# Altium footprint library ChargeControl1.PcbLib: 10 footprints
Each footprint in its own frame and in the unit in brackets; x right, y up, seen from the top. Pads: shape width x height; smd on the part's side, far side on the other; paste and mask are expansions set on the pad; w line width, h text height; cw(c..) or ccw(c..) is an arc to the next point about the centre after c.
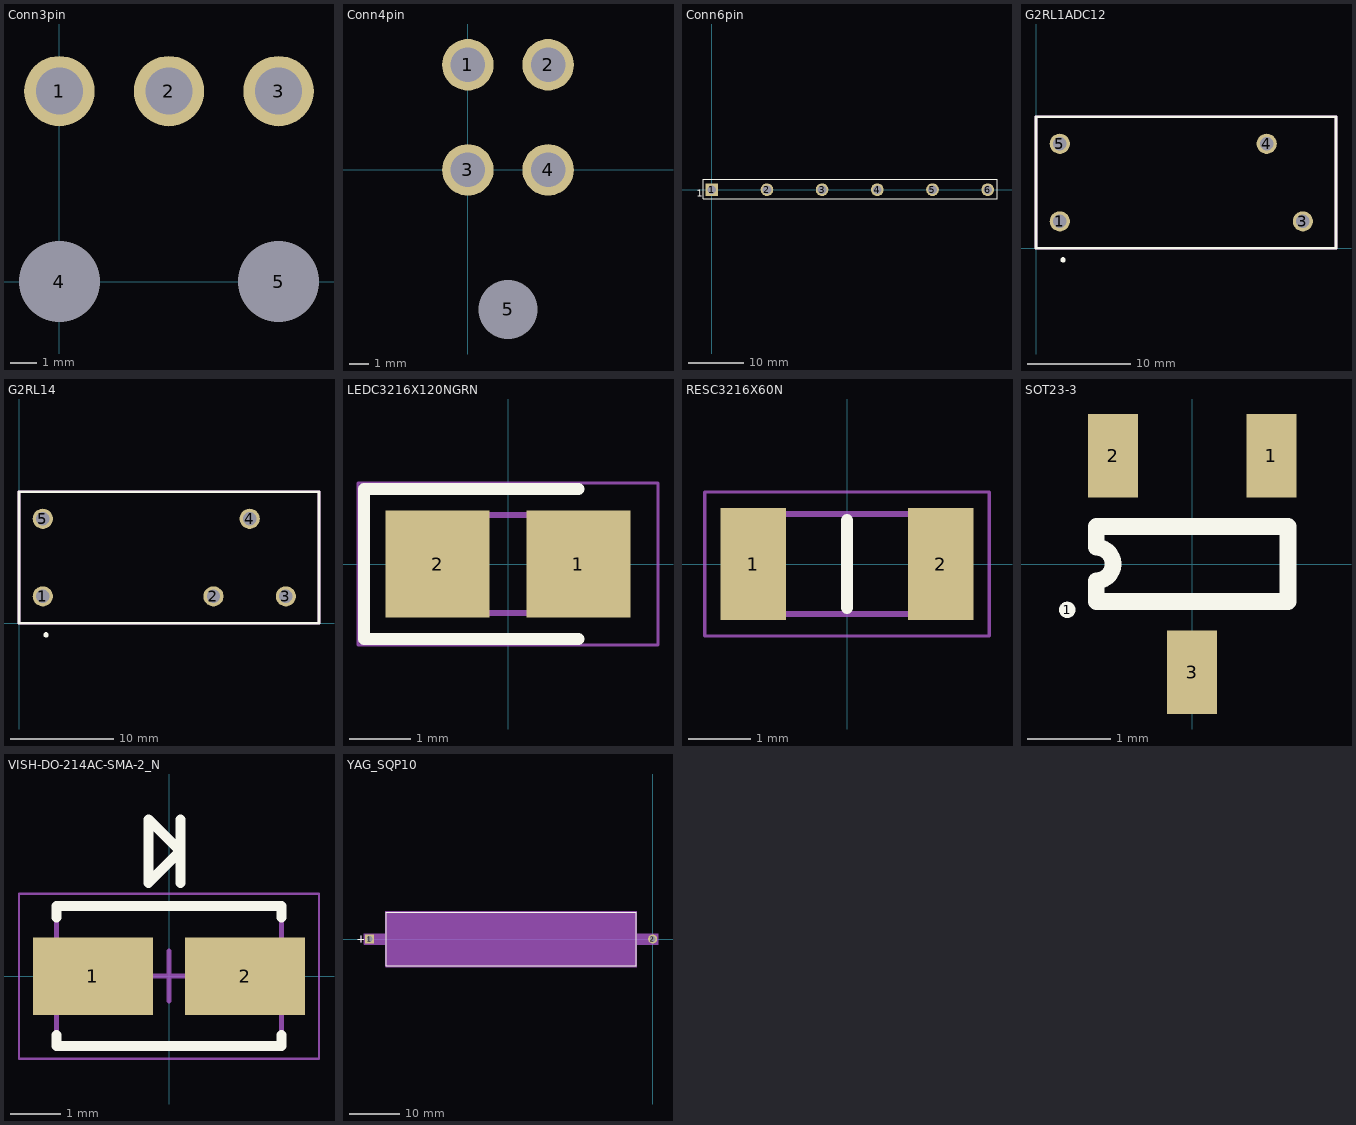
[diagram p0: the footprints below, top view; thin cyan lines are the x and y axes]

## Conn3pin [mm]
pads (5):
  round 2.7 hole 1.8: 1(0,7.3) 2(4.2,7.3) 3(8.4,7.3)
  round 2.3 hole 3.1: 4(0,0) 5(8.4,0)
3D body "039303035.stp": height 6.81, standoff -3.89, extent -2.667,-6.223 11.133,7.827
3D body: height 10.49, standoff -2.79, extent -4.572,5.969 -4.572,5.969

## Conn4pin [mm]
pads (5):
  round 2.7 hole 1.8: 1(0,5.5) 2(4.2,5.5) 3(0,0) 4(4.2,0)
  round 2.3 hole 3.1: 5(2.1,-7.3)
3D body: height 10.49, standoff -2.79, extent -4.572,5.969 -4.572,5.969
3D body "039300040.stp": height 11.01, standoff -3.99, extent -2.641,-13.97 7.359,5.965

## Conn6pin [mm]
pads (6):
  rect 2.3x2.3 hole 1.6: 1(0,0)
  round 2.3 hole 1.6: 2(10,0) 3(20,0) 4(30,0) 5(40,0) 6(50,0)
Top Overlay:
  lines w0.2: -1.524,-1.651 51.689,-1.651 51.689,1.905 -1.524,1.905 -1.524,-1.651
  text "1" at -2.667,-1.27 h1.27

## G2RL1ADC12 [mm]
pads (4):
  round 1.95 hole 1.3: 1(2.3,2.6) 3(25.8,2.6) 4(22.3,10.1) 5(2.3,10.1)
Top Overlay:
  circle w0.254: c2.613,-1.122 r0.125
  lines w0.254: 0,0 0,12.7 29,12.7 29,0 0,0
Mechanical 15:
  lines w0.254: 0,0 29,0 29,12.7 0,12.7 0,0
3D body "G2RL_1A.step": height 15.31, standoff -3.89, extent -0.149,0 28.851,12.7
3D body: height 0.25, standoff 0, extent 10.668,8.509 10.668,8.509
3D body: height 0.25, standoff 0, extent 10.668,8.509 10.668,8.509

## G2RL14 [mm]
pads (5):
  round 1.95 hole 1.3: 1(2.3,2.6) 2(18.8,2.6) 3(25.8,2.6) 4(22.3,10.1) 5(2.3,10.1)
Top Overlay:
  circle w0.254: c2.613,-1.122 r0.125
  lines w0.254: 0,0 0,12.7 29,12.7 29,0 0,0
Mechanical 15:
  lines w0.254: 0,0 29,0 29,12.7 0,12.7 0,0
3D body "G2RL_1.step": height 15.31, standoff -3.89, extent -0.022,0 28.978,12.7

## LEDC3216X120NGRN [mm]
pads (2):
  rect 1.7x1.75 smd: 1(1.15,0) 2(-1.15,0)
Top Overlay:
  lines w0.2: 1.15,-1.225 -2.35,-1.225 -2.35,1.225 1.15,1.225
Mechanical 15:
  lines w0.1: -1.6,0.267 -1.067,0.8 ; -1.6,-0.8 -1.6,0.8 1.6,0.8 1.6,-0.8 -1.6,-0.8
Mechanical 16:
  lines w0.05: -2.45,-1.325 -2.45,1.325 2.45,1.325 2.45,-1.325 -2.45,-1.325
3D body "LED 1206 Grn.stp": height 1.1, standoff 0, extent -1.6,-0.8 1.6,0.8

## RESC3216X60N [mm]
pads (2):
  rect 1.05x1.8 smd: 1(-1.5,0) 2(1.5,0)
Top Overlay:
  lines w0.2: 0,-0.7 0,0.7
Mechanical 15:
  lines w0.1: -1.575,-0.8 1.575,-0.8 1.575,0.8 -1.575,0.8 -1.575,-0.8
Mechanical 16:
  lines w0.05: -2.275,-1.15 2.275,-1.15 2.275,1.15 -2.275,1.15 -2.275,-1.15
3D body: height 1.2, standoff 0, extent 0,-0.025 0,-0.025
3D body "CRCW12063K30FKEAC.stp": height 0.6, standoff 0, extent -1.575,-0.825 1.575,0.775

## SOT23-3 [mm]
pads (4):
  round 0.2 on Top Overlay: 1(-1.5,-0.55)
  rect 0.6x1 smd: 1(0.95,1.3) 2(-0.95,1.3) 3(0,-1.3)
Top Overlay:
  lines w0.2: -1.15,-0.45 -1.15,-0.2 ccw(c-1.15,0) -1.15,0.2 -1.15,0.45 1.15,0.45 1.15,-0.45 -1.15,-0.45
3D body "SOT23-3.step": height 1.3, standoff 0, extent -1.45,-1.4 1.45,1.4

## VISH-DO-214AC-SMA-2_N [mm]
pads (2):
  rect 2.4x1.55 smd: 1(-1.525,0) 2(1.525,0)
Top Overlay:
  lines w0.2: -2.25,-1.175 -2.25,-1.4 2.25,-1.4 2.25,-1.175 ; -2.25,1.175 -2.25,1.4 2.25,1.4 2.25,1.175 ; 0.227,1.869 0.227,3.139 ; -0.408,1.869 0.227,2.504 -0.408,3.139 -0.408,1.869
Mechanical 13:
  lines w0.1: -2.25,-1.395 2.25,-1.395 2.25,1.395 -2.25,1.395 -2.25,-1.395
Mechanical 15:
  lines w0.05: -3,-1.65 3,-1.65 3,1.65 -3,1.65 -3,-1.65
  lines w0.1: -0.5,0 0.5,0 ; 0,-0.5 0,0.5
3D body "DO-214AC_SMA.step": height 2.2, standoff 0, extent -2.5,-1.35 2.5,1.35

## YAG_SQP10 [mm]
pads (2):
  rect 1.8x1.8 / inner rect 1.626x1.626 / far side rect 1.626x1.626 hole 1.118 mask+0: 1(-56.388,0)
  round 1.8 / inner round 1.626 / far side round 1.626 hole 1.118 mask+0: 2(0,0)
Top Overlay:
  lines w0.152: -58.725,0 -57.534,0 ; -58.09,-0.635 -58.09,0.635 ; -53.073,-5.372 -53.073,5.372 -3.315,5.372 -3.315,-5.372 -53.073,-5.372
Mechanical 13:
  lines w0.025: -58.725,0 -57.455,0 ; -58.09,-0.635 -58.09,0.635 ; -56.388,0 -52.946,0 ; -3.442,0 0,0 ; -52.946,-5.245 -52.946,5.245 -3.442,5.245 -3.442,-5.245 -52.946,-5.245
Mechanical 15:
  region: -53.2,-1.067 -57.455,-1.067 -57.455,1.067 -53.2,1.067 -53.2,5.499 -3.188,5.499 -3.188,1.067 1.067,1.067 1.067,-1.067 -3.188,-1.067 -3.188,-5.499 -53.2,-5.499
  lines w0.152: -57.455,-1.067 -53.2,-1.067 -53.2,-5.499 -3.188,-5.499 -3.188,-1.067 1.067,-1.067 1.067,1.067 -3.188,1.067 -3.188,5.499 -53.2,5.499 -53.2,1.067 -57.455,1.067 -57.455,-1.067
3D body "YAG_SQP10.stp": height 10.49, standoff -2.79, extent -56.82,-5.245 0.432,5.245
3D body: height 0.25, standoff 0, extent -24.511,1.905 -24.511,1.905
3D body: height 0.25, standoff 0, extent 0,0 0.254,0.254